# Altium schematic symbol library FR302.SchLib: 1 symbol
Pins are listed as number, name and electrical type; pins without a type are passive.

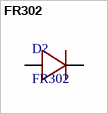
[diagram p0: symbol FR302]

## FR302
designator D?
footprint DO-27-V
footprint DO-27 (DO-201AD)
pins: 1 A, 2 K